# Altium schematic symbol library MB0053A.01.A.1.SchLib: 1 symbol
Pins are listed as number, name and electrical type; pins without a type are passive.

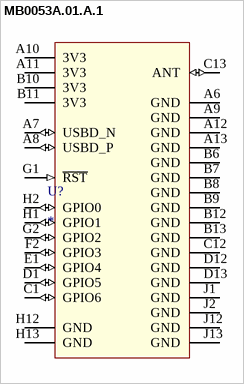
[diagram p0: symbol MB0053A.01.A.1]

## MB0053A.01.A.1
designator U?
pins: A6 GND, A7 USBD_N (io), A8 USBD_P (io), A9 GND, A10 3V3 (power), A11 3V3 (power), A12 GND, A13 GND, B6 GND, B7 GND, B8 GND, B9 GND, B10 3V3 (power), B11 3V3 (power), B12 GND, B13 GND, C1 GPIO6 (io), C12 GND, C13 ANT (io), D1 GPIO5 (io), D12 GND, D13 GND, E1 GPIO4 (io), F2 GPIO3 (io), G1 ~{RST} (in), G2 GPIO2 (io), H1 GPIO1 (io), H2 GPIO0 (io), H12 GND, H13 GND, J1 GND, J2 GND, J12 GND, J13 GND